# Altium schematic symbol library General.SchLib: 13 symbols
Pins are listed as number, name and electrical type; pins without a type are passive.

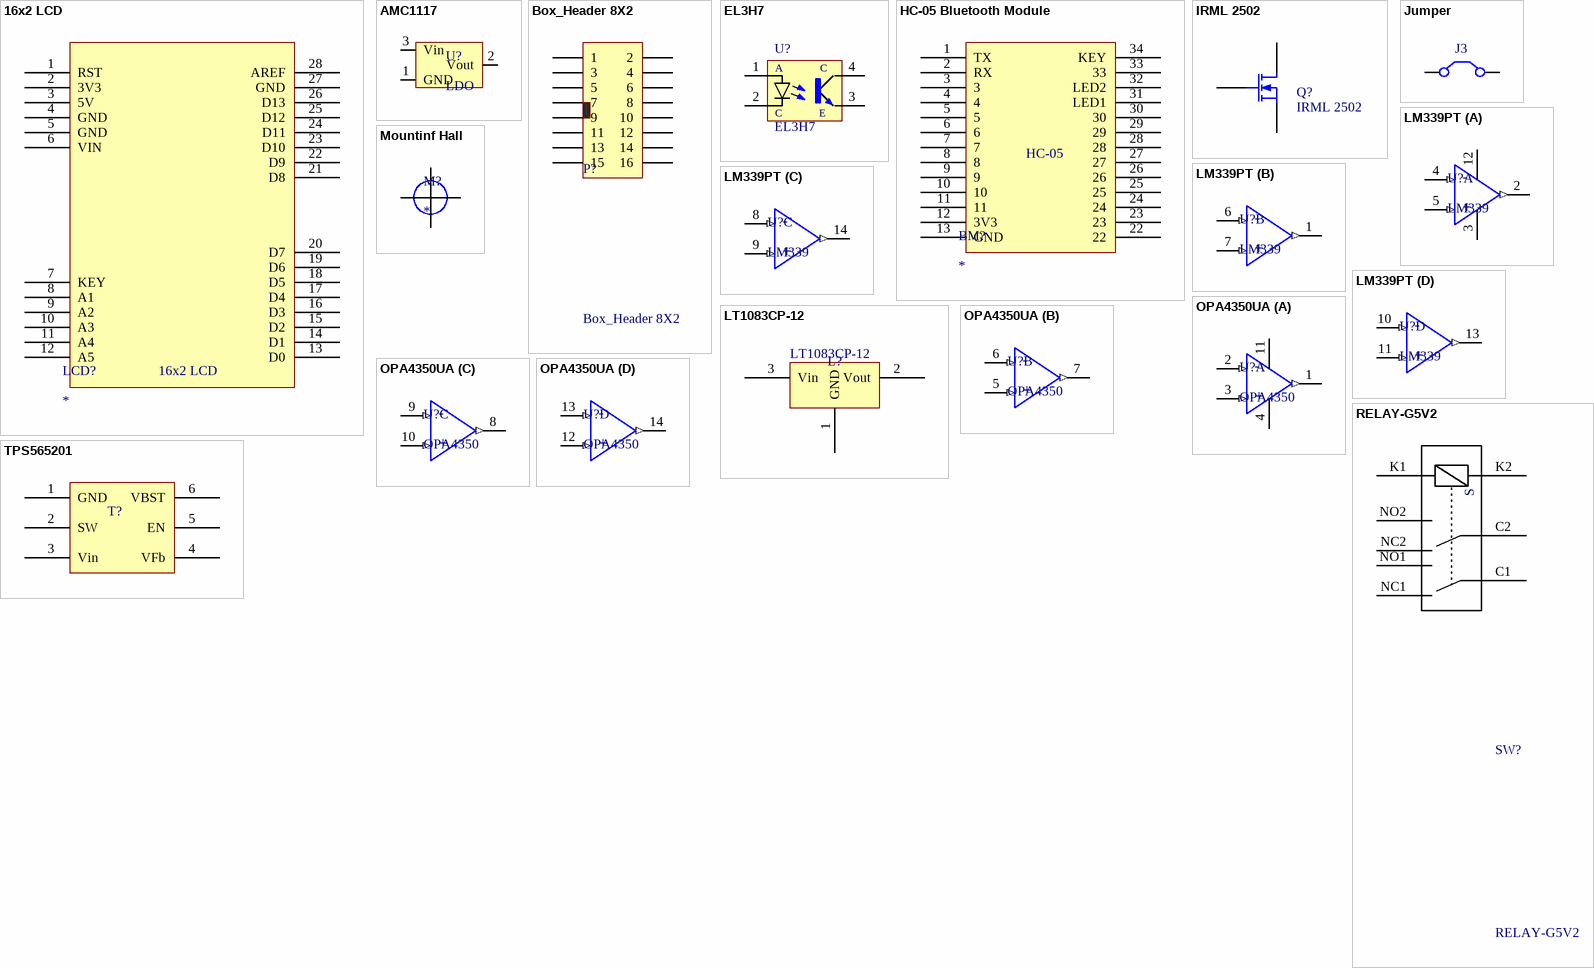
[diagram p0: symbols 16x2 LCD to TPS565201]

## 16x2 LCD
designator LCD?
footprint 16x2 LCD
pins: 1 RST, 2 3V3, 3 5V, 4 GND, 5 GND, 6 VIN, 7 KEY, 8 A1, 9 A2, 10 A3, 11 A4, 12 A5, 13 D0, 14 D1, 15 D2, 16 D3, 17 D4, 18 D5, 19 D6, 20 D7, 21 D8, 22 D9, 23 D10, 24 D11, 25 D12, 26 D13, 27 GND, 28 AREF

## AMC1117
designator U?, comment LDO
1A LOW DROPOUT  POSITIVE REGULATOR; Value: 5V; Value: 3V3
footprint SOT 223 (Compatible with AMC1117)
footprint SOT 223 (Compatible with AMC1117)
pins: 1 GND, 2 Vout, 3 Vin

## Box_Header 8X2
designator P?
Box_Header, 8-Pin, Dual row; LatestRevisionDate: 17-Jul-2002; LatestRevisionNote: Re-released for DXP Platform.; Publisher: Altium Limited
footprint 16P_PCB_HEADER_BRD_MNT (HEADER BRD MNT 16POS 2.54MM)
signal-integrity model Connector
pins: 1, 2, 3, 4, 5, 6, 7, 8, 9, 10, 11, 12, 13, 14, 15, 16

## EL3H7
designator U?
4 PIN SSOP PHOTOTRANSISTOR PHOTOCOUPLER  EL3H7-G Series; MF: Everlight Electronics Co Ltd; MP: EL3H7(B)(TA)-VG; Availability: Good; Price: 0.38 USD; Package: 4-SOIC (0.173", 4.40mm Width); Value: *; Link: https://www.aliexpress.com/item/EL3H7-EL3H7B/32790786144.html?spm=2114.search0104.3.1.jET5wA&ws_ab_test=searchweb0_0,searchweb201602_4_10152_10151_10065_10344_10068_10342_10343_10059_10340_10314_10341_10534_100031_10084_10604_10083_10103_10307_10615_10142,searchweb201603_6,ppcSwitch_5&algo_expid=5474374f-0a56-4f16-a85c-f9bd8aaab92e-0&algo_pvid=5474374f-0a56-4f16-a85c-f9bd8aaab92e&priceBeautifyAB=5
footprint SSOP 4
footprint SSOP 4
footprint SSOP 4
pins: 1 A, 2 C, 3 E, 4 CO

## HC-05 Bluetooth Module
designator BM?
footprint HC-05 Bluetooth Module
pins: 1 TX, 2 RX, 3, 4, 5, 6, 7, 8, 9, 10, 11, 12 3V3, 13 GND, 22, 23, 24, 25, 26, 27, 28, 29, 30, 31 LED1, 32 LED2, 33, 34 KEY
text: HC-05

## IRML 2502
designator Q?
N-Channel MOSFET; Published: 8-Jun-2000; LatestRevisionDate: 17-Jul-2002; LatestRevisionNote: Re-released for DXP Platform.; PackageVersion: 1995/1996; PackageReference: E3; Publisher: Altium Limited; PackageDescription: TO, Flat Index; 3 In-Line, Axial Leads; Body Dia. 4.6mm; Lead Dia. 0.5 mm (max)
footprint SOT-23_L (SOT23, 3-Leads, Body 2.9x1.3mm, Pitch 0.95mm, Lead Span 2.5mm, IPC High Density)
simulation model NMOS (MOSFET-N)
pins: 1 G, 2 S, 3 D

## Jumper
designator J3  (value not drawn)
Jumper Wire; Published: 24-Mar-1999; LatestRevisionDate: 17-Jul-2002; LatestRevisionNote: Re-released for DXP Platform.; PackageReference: RAD-0.2; Publisher: Altium Limited; PackageDescription: Radial Cap, Thru-Hole; 2 Leads; 0.2 in Pin Spacing
footprint 6-0805_M (Chip Resistor, Body 2.0x1.2mm, IPC Low Density)
footprint 6-0805_M (Chip Resistor, Body 2.0x1.2mm, IPC Low Density)
pins: 1 C1, 2 C2

## LM339PT
designator U?, comment LM339
Comparator General Purpose CMOS, DTL, ECL, MOS, Open-Collector, TTL 14-TSSOP
footprint SO14
part A pins: 2 (out), 3 VCC, 4 - (in), 5 + (in), 12 GND
part B pins: 1 (out), 6 - (in), 7 + (in)
part C pins: 8 - (in), 9 + (in), 14 (out)
part D pins: 10 - (in), 11 + (in), 13 (out)

## LT1083CP-12
designator L?  (value not drawn)
pins: 1 GND, 2 Vout, 3 Vin

## Mountinf Hall
designator M?
footprint Mounting_Hall

## OPA4350UA
designator U?, comment OPA4350
General Purpose Amplifier 4 Circuit Rail-to-Rail 14-SOIC
footprint SO14
part A pins: 1 (out), 2 - (in), 3 + (in), 4, 11
part B pins: 5 + (in), 6 - (in), 7 (out)
part C pins: 8 (out), 9 - (in), 10 + (in)
part D pins: 12 + (in), 13 - (in), 14 (out)

## RELAY-G5V2
designator SW?
RELAY DPDT SINGLE COIL; Text Field1: NAIS-OMRON; Text Field2: DS2E-ML2-DV12V; Text Field3: DIGIKEY
footprint RELAY-G5V-2
pins: C1, C2, K1, K2, NC1, NC2, NO1, NO2
text: S

## TPS565201
designator T?  (value not drawn)
footprint SOT23-6_N (SOT23, 6-Leads, Body 2.9x1.6mm, Pitch 0.95mm, Lead Span 2.7mm, IPC Medium Density)
pins: 1 GND, 2 SW, 3 Vin, 4 VFb, 5 EN, 6 VBST